# Altium footprint library PcbLib1.PcbLib: 2 footprints
Each footprint in its own frame and in the unit in brackets; x right, y up, seen from the top. Pads: shape width x height; smd on the part's side, far side on the other; paste and mask are expansions set on the pad; w line width, h text height; cw(c..) or ccw(c..) is an arc to the next point about the centre after c.
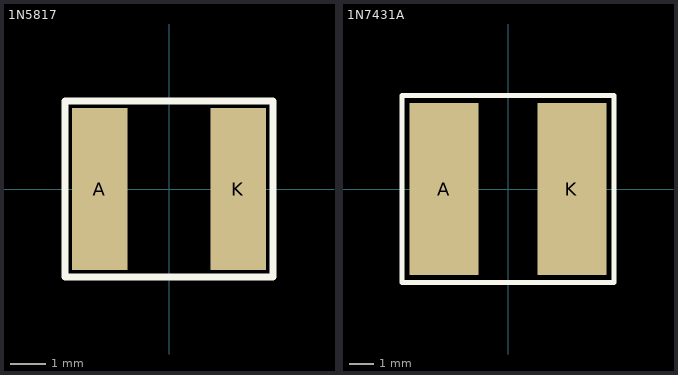
[diagram p0: the footprints below, top view; thin cyan lines are the x and y axes]

## 1N5817 [mm]
pads (2):
  rect 1.575x4.597 smd: A(-1.965,0) K(1.965,0)
Top Overlay:
  lines w0.2: -2.954,-2.5 2.954,-2.5 2.954,2.5 -2.954,2.5 -2.954,0 -2.954,-2.5
3D body "1N5817.STEP": height 2.32, standoff 0.01, extent -2.5,-1.35 2.5,1.35

## 1N7431A [mm]
pads (2):
  rect 2.8x7 smd: A(-2.6,0) K(2.6,0)
Top Overlay:
  lines w0.2: -4.318,-3.81 -4.318,-1.318 -4.318,3.81 4.318,3.81 4.318,-3.81 -4.318,-3.81
3D body "1N4731A.STEP": height 2.48, standoff 0.01, extent -2.72,-1.78 2.72,1.78